# EAGLE library part MCP3911 (library df4iah_adc)
Microchip MCP3911 3.3V Two-Channel Analog Front End ADC, 2ch, 125ksps
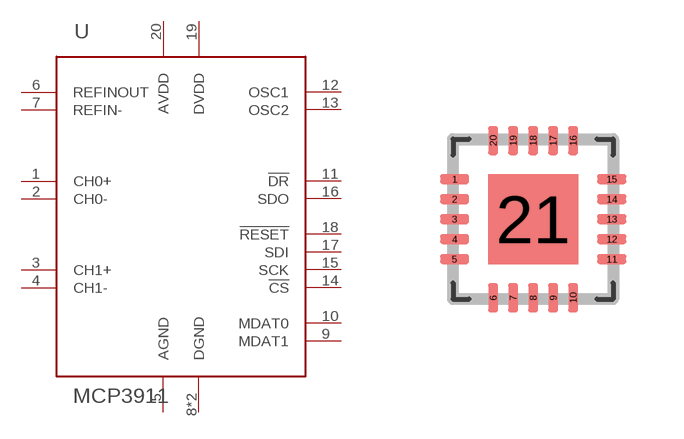
[diagram p1: symbol with the pads of QFN20_P0MM5_CTRPAD; footprint QFN20_P0MM5_CTRPAD]

Designator prefix U

## MCP3911  [QFN20_P0MM5_CTRPAD]
1  CH0+  pas
2  CH0-  pas
3  CH1+  pas
4  CH1-  pas
5  AGND  pas
6  REFINOUT  pas
7  REFIN-  pas
8  DGND  pas
9  MDAT1  out
10  MDAT0  out
11  !DR  out
12  OSC1  pas
13  OSC2  pas
14  !CS  in
15  SCK  in
16  SDO  out
17  SDI  in
18  !RESET  in
19  DVDD  pwr
20  AVDD  pwr
21  DGND  pas

## Footprint QFN20_P0MM5_CTRPAD (pad centres in mm)
QFN20 - pitch 0.5 mm - with center pad
smd 0.73 x 0.25: 1 -1.965,1; 2 -1.965,0.5; 3 -1.965,0; 4 -1.965,-0.5; 5 -1.965,-1; 11 1.965,-1; 12 1.965,-0.5; 13 1.965,0; 14 1.965,0.5; 15 1.965,1
smd 0.25 x 0.73: 6 -1,-1.965; 7 -0.5,-1.965; 8 0,-1.965; 9 0.5,-1.965; 10 1,-1.965; 16 1,1.965; 17 0.5,1.965; 18 0,1.965; 19 -0.5,1.965; 20 -1,1.965
smd 2.25 x 2.25: 21 0,0